# Altium integrated library NSC ADC.IntLib: 207 symbols (part 2 of 7)
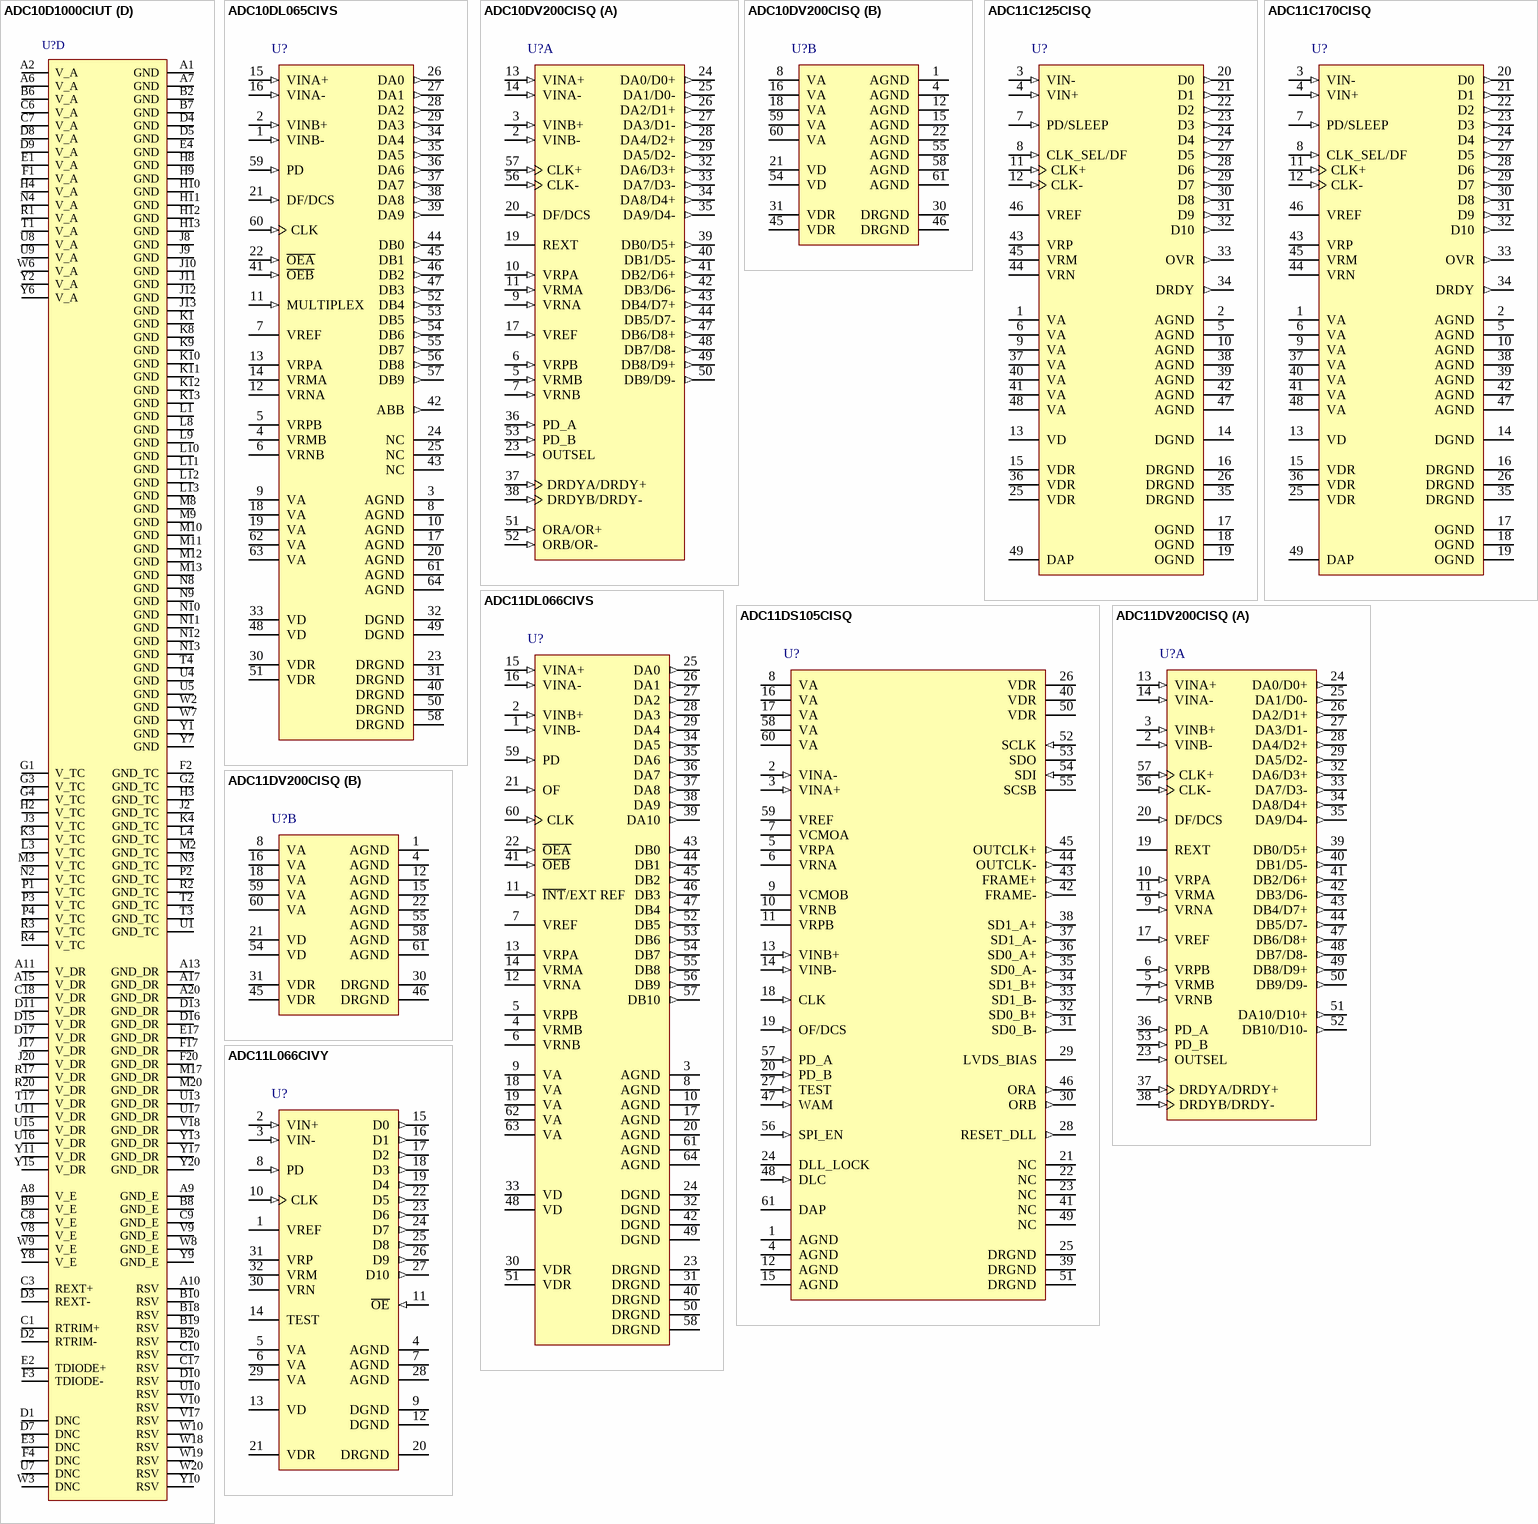
[diagram p18: symbols ADC10D1000CIUT to ADC11L066CIVY]

## ADC10D1000CIUT
designator U?
Low Power, 10-Bit, Dual 1.0 GSPS or Single 2.0 GSPS A/D Converter; PartNumber: ADC10D1000CIUT; Manufacturer: National Semiconductor; CompType: ADC IC; PackageTopMarking: NSUZXYYTTE#*ADC10D1000*CIUT; PowerWise: Y; Published: 4-Dec-2008; DatasheetVersion: Nov-2008; PackageVersion: revA, Jul-2001; PackageReference: UFH292A; Publisher: Altium Limited; PackageDescription: TE-PBGA, 27 x 27 x 2.38mm, 292 Ball, 1.27mm Pitch; RoHS: N; PinCount: 292; Code_JEDEC: MS-034-BAL-2; ComponentLink1Description: ADC10D1000 Datasheet; ComponentLink1URL: http://www.national.com/ds/AD/ADC10D1000.pdf; ComponentLink2Description: ADC10D1000 Web Page; ComponentLink2URL: http://www.national.com/pf/AD/ADC10D1000.html; ComponentLink3Description: UFH292A Package Drawing; ComponentLink3URL: http://www.national.com/packaging/folders/ufh292a.html
footprint UFH292A (BGA, 292-Leads, Body 27x27mm, Pitch 1.27mm)
part A pins: A12 DID1+ (out), A14 DID4+ (out), A16 DID7+ (out), A18 DID9+ (out), A19 DID9- (out), B11 DID0+ (out), B12 DID1- (out), B13 DID3+ (out), B14 DID4- (out), B15 DID6+ (out), B16 DID7- (out), B17 DID8+ (out), C11 DID0- (out), C12 DID2+ (out), C13 DID3- (out), C14 DID5+ (out), C15 DID6- (out), C16 DID8- (out), C19 DI0+ (out), C20 DI0- (out), D12 DID2- (out), D14 DID5- (out), D18 DI1+ (out), D19 DI2+ (out), D20 DI2- (out), E18 DI1- (out), E19 DI3+ (out), E20 DI3- (out), F18 DI4+ (out), F19 DI4- (out), G17 DI5+ (out), G18 DI5- (out), G19 DI6+ (out), G20 DI6- (out), H1 VINI+ (in), H17 DI7+ (out), H18 DI7- (out), H19 DI8+ (out), H20 DI8- (out), J1 VINI- (in), J4 VBIASI (power), J18 DI9+ (out), J19 DI9- (out), K2 VBIASI (power), K17 ORI+ (out), K18 ORI- (out), K19 DCLKI+ (out), K20 DCLKI- (out), U3 PDI (in)
part B pins: L2 VBIASQ (power), L17 ORQ+ (out), L18 ORQ- (out), L19 DCLKQ+ (out), L20 DCLKQ- (out), M1 VINQ- (in), M4 VBIASQ (power), M18 DQ9+ (out), M19 DQ9- (out), N1 VINQ+ (in), N17 DQ7+ (out), N18 DQ7- (out), N19 DQ8+ (out), N20 DQ8- (out), P17 DQ5+ (out), P18 DQ5- (out), P19 DQ6+ (out), P20 DQ6- (out), R18 DQ4+ (out), R19 DQ4- (out), T18 DQ1- (out), T19 DQ3+ (out), T20 DQ3- (out), U12 DQD2- (out), U14 DQD5- (out), U18 DQ1+ (out), U19 DQ2+ (out), U20 DQ2- (out), V3 PDQ (in), V11 DQD0- (out), V12 DQD2+ (out), V13 DQD3- (out), V14 DQD5+ (out), V15 DQD6- (out), V16 DQD8- (out), V19 DQ0+ (out), V20 DQ0- (out), W11 DQD0+ (out), W12 DQD1- (out), W13 DQD3+ (out), W14 DQD4- (out), W15 DQD6+ (out), W16 DQD7- (out), W17 DQD8+ (out), Y12 DQD1+ (out), Y14 DQD4+ (out), Y16 DQD7+ (out), Y18 DQD9+ (out), Y19 DQD9- (out)
part C pins: A3 SDO (out), A4 TPM (in), A5 NDM (in), B1 VBG (out), B3 ECEB (in), B4 SDI (in), B5 CALRUN (out), C2 VCMO (out), C4 SCSB (in), C5 SCLK (in), D6 CAL (in), U2 CLK+ (in), U6 RCOUT1- (out), V1 CLK- (in), V2 DCLK_RST+ (in), V4 CALDLY (in), V5 DES (in), V6 RCOUT2+ (out), V7 RCOUT2- (out), W1 DCLK_RST- (in), W4 DDRPH (in), W5 RCLK- (in), Y3 FSR (in), Y4 RCLK+ (in), Y5 RCOUT1+ (out)
part D pins: A1 GND (power), A2 V_A (power), A6 V_A (power), A7 GND (power), A8 V_E (power), A9 GND_E (power), A10 RSV, A11 V_DR (power), A13 GND_DR (power), A15 V_DR (power), A17 GND_DR (power), A20 GND_DR (power), B2 GND (power), B6 V_A (power), B7 GND (power), B8 GND_E (power), B9 V_E (power), B10 RSV, B18 RSV, B19 RSV, B20 RSV, C1 RTRIM+, C3 REXT+, C6 V_A (power), C7 V_A (power), C8 V_E (power), C9 GND_E (power), C10 RSV, C17 RSV, C18 V_DR (power), D1 DNC, D2 RTRIM-, D3 REXT-, D4 GND (power), D5 GND (power), D7 DNC, D8 V_A (power), D9 V_A (power), D10 RSV, D11 V_DR (power), D13 GND_DR (power), D15 V_DR (power), D16 GND_DR (power), D17 V_DR (power), E1 V_A (power), E2 TDIODE+, E3 DNC, E4 GND (power), E17 GND_DR (power), F1 V_A (power), F2 GND_TC (power), F3 TDIODE-, F4 DNC, F17 GND_DR (power), F20 GND_DR (power), G1 V_TC (power), G2 GND_TC (power), G3 V_TC (power), G4 V_TC (power), H2 V_TC (power), H3 GND_TC (power), H4 V_A (power), H8 GND (power), H9 GND (power), H10 GND (power), H11 GND (power), H12 GND (power), H13 GND (power), J2 GND_TC (power), J3 V_TC (power), J8 GND (power), J9 GND (power), J10 GND (power), J11 GND (power), J12 GND (power), J13 GND (power), J17 V_DR (power), J20 V_DR (power), K1 GND (power), K3 V_TC (power), K4 GND_TC (power), K8 GND (power), K9 GND (power), K10 GND (power), K11 GND (power), K12 GND (power), K13 GND (power), L1 GND (power), L3 V_TC (power), L4 GND_TC (power), L8 GND (power), L9 GND (power), L10 GND (power), L11 GND (power), L12 GND (power), L13 GND (power), M2 GND_TC (power), M3 V_TC (power), M8 GND (power), M9 GND (power), M10 GND (power), M11 GND (power), M12 GND (power), M13 GND (power), M17 GND_DR (power), M20 GND_DR (power), N2 V_TC (power), N3 GND_TC (power), N4 V_A (power), N8 GND (power), N9 GND (power), N10 GND (power), N11 GND (power), N12 GND (power), N13 GND (power), P1 V_TC (power), P2 GND_TC (power), P3 V_TC (power), P4 V_TC (power), R1 V_A (power), R2 GND_TC (power), R3 V_TC (power), R4 V_TC (power), R17 V_DR (power), R20 V_DR (power), T1 V_A (power), T2 GND_TC (power), T3 GND_TC (power), T4 GND (power), T17 V_DR (power), U1 GND_TC (power), U4 GND (power), U5 GND (power), U7 DNC, U8 V_A (power), U9 V_A (power), U10 RSV, U11 V_DR (power), U13 GND_DR (power), U15 V_DR (power), U16 V_DR (power), U17 GND_DR (power), V8 V_E (power), V9 GND_E (power), V10 RSV, V17 RSV, V18 GND_DR (power), W2 GND (power), W3 DNC, W6 V_A (power), W7 GND (power), W8 GND_E (power), W9 V_E (power), W10 RSV, W18 RSV, W19 RSV, W20 RSV, Y1 GND (power), Y2 V_A (power), Y6 V_A (power), Y7 GND (power), Y8 V_E (power), Y9 GND_E (power), Y10 RSV, Y11 V_DR (power), Y13 GND_DR (power), Y15 V_DR (power), Y17 GND_DR (power), Y20 GND_DR (power)

## ADC10DL065CIVS
designator U?
Dual 10-Bit, 65 MSPS, 3.3V, 370mW A/D Converter; PartNumber: ADC10DL065CIVS; Manufacturer: National Semiconductor; CompType: ADC IC; PackageTopMarking: NSUZXYYTT*ADC10DL065*CIVS; PowerWise: N; Published: 4-Dec-2008; DatasheetVersion: Jun-2006; PackageVersion: revB, Jul-2003; PackageReference: VEC64A; Publisher: Altium Limited; PackageDescription: TQFP, Jedec Metric, 10 x 10 x 1.0mm, 64 Lead, 0.5mm Pitch; RoHS: Y; PinCount: 64; DigiKeyPartNumber: ADC10DL065CIVS-ND; Code_JEDEC: MS-026-ACD; ComponentLink1Description: ADC10DL065 Datasheet; ComponentLink1URL: http://www.national.com/ds/AD/ADC10DL065.pdf; ComponentLink2Description: ADC10DL065 Web Page; ComponentLink2URL: http://www.national.com/pf/AD/ADC10DL065.html; ComponentLink3Description: VEC64A Package Page; ComponentLink3URL: http://www.national.com/packaging/folders/vec64a.html
footprint VEC64A_N (Thin QFP, 64-Leads, Body 10x10mm, Pitch 0.5mm, IPC Medium Density)
footprint VEC64A_L (Thin QFP, 64-Leads, Body 10x10mm, Pitch 0.5mm, IPC High Density)
footprint VEC64A_M (Thin QFP, 64-Leads, Body 10x10mm, Pitch 0.5mm, IPC Low Density)
pins: 1 VINB- (in), 2 VINB+ (in), 3 AGND (power), 4 VRMB, 5 VRPB, 6 VRNB, 7 VREF (power), 8 AGND (power), 9 VA (power), 10 AGND (power), 11 MULTIPLEX (in), 12 VRNA, 13 VRPA, 14 VRMA, 15 VINA+ (in), 16 VINA- (in), 17 AGND (power), 18 VA (power), 19 VA (power), 20 AGND (power), 21 DF/DCS (in), 22 ~{OEA} (in), 23 DRGND (power), 24 NC, 25 NC, 26 DA0 (out), 27 DA1 (out), 28 DA2 (out), 29 DA3 (out), 30 VDR (power), 31 DRGND (power), 32 DGND (power), 33 VD (power), 34 DA4 (out), 35 DA5 (out), 36 DA6 (out), 37 DA7 (out), 38 DA8 (out), 39 DA9 (out), 40 DRGND (power), 41 ~{OEB} (in), 42 ABB (out), 43 NC, 44 DB0 (out), 45 DB1 (out), 46 DB2 (out), 47 DB3 (out), 48 VD (power), 49 DGND (power), 50 DRGND (power), 51 VDR (power), 52 DB4 (out), 53 DB5 (out), 54 DB6 (out), 55 DB7 (out), 56 DB8 (out), 57 DB9 (out), 58 DRGND (power), 59 PD (in), 60 CLK (in), 61 AGND (power), 62 VA (power), 63 VA (power), 64 AGND (power)

## ADC10DV200CISQ
designator U?
Dual 10-bit, 200 MSPS Low-Power A/D Converter with Parallel LVDS/CMOS Outputs; PartNumber: ADC10DV200CISQ; Manufacturer: National Semiconductor; CompType: ADC IC; PackageTopMarking: NS*UZXYTT*10DV200*CISQ; PowerWise: Y; Published: 29-May-2009; DatasheetVersion: Feb-2009; PackageVersion: revA, Jun-2005; PackageReference: SQA60A; Publisher: Altium Limited; PackageDescription: LLP, Quad, 9 x 9 x 0.8mm, 60 Lead, 0.5mm Pitch, No Pullback; RoHS: Y; PinCount: 60; DigiKeyPartNumber: ADC10DV200CISQ-ND; ComponentLink1Description: ADC10DV200 Datasheet; ComponentLink1URL: http://www.national.com/ds/AD/ADC10DV200.pdf; ComponentLink2Description: ADC10DV200 Web Page; ComponentLink2URL: http://www.national.com/pf/AD/ADC10DV200.html; ComponentLink3Description: SQA60A Package Page; ComponentLink3URL: http://www.national.com/packaging/folders/sqa60a.html
footprint SQA60A (QFN, 60-Leads, Body 9x9mm, Pitch 0.5mm, NSC Recommended)
part A pins: 2 VINB- (in), 3 VINB+ (in), 5 VRMB (in), 6 VRPB (in), 7 VRNB (in), 9 VRNA (in), 10 VRPA (in), 11 VRMA (in), 13 VINA+ (in), 14 VINA- (in), 17 VREF (in), 19 REXT, 20 DF/DCS (in), 23 OUTSEL (in), 24 DA0/D0+ (out), 25 DA1/D0- (out), 26 DA2/D1+ (out), 27 DA3/D1- (out), 28 DA4/D2+ (out), 29 DA5/D2- (out), 32 DA6/D3+ (out), 33 DA7/D3- (out), 34 DA8/D4+ (out), 35 DA9/D4- (out), 36 PD_A (in), 37 DRDYA/DRDY+ (in), 38 DRDYB/DRDY- (in), 39 DB0/D5+ (out), 40 DB1/D5- (out), 41 DB2/D6+ (out), 42 DB3/D6- (out), 43 DB4/D7+ (out), 44 DB5/D7- (out), 47 DB6/D8+ (out), 48 DB7/D8- (out), 49 DB8/D9+ (out), 50 DB9/D9- (out), 51 ORA/OR+ (in), 52 ORB/OR- (in), 53 PD_B (in), 56 CLK- (in), 57 CLK+ (in)
part B pins: 1 AGND (power), 4 AGND (power), 8 VA (power), 12 AGND (power), 15 AGND (power), 16 VA (power), 18 VA (power), 21 VD (power), 22 AGND (power), 30 DRGND (power), 31 VDR (power), 45 VDR (power), 46 DRGND (power), 54 VD (power), 55 AGND (power), 58 AGND (power), 59 VA (power), 60 VA (power), 61 AGND (power)

## ADC11C125CISQ
designator U?
11-Bit, 125 MSPS, 1.1 GHz Bandwidth A/D Converter with CMOS outputs; PartNumber: ADC11C125CISQ; Manufacturer: National Semiconductor; CompType: ADC IC; PackageTopMarking: NS*UZXYTT*ADC11C125; PowerWise: N; Published: 4-Dec-2008; DatasheetVersion: May-2007; PackageVersion: revA, May-2003; PackageReference: SQA48A; Publisher: Altium Limited; PackageDescription: LLP, Plastic, Quad, 7 x 7 x 0.8mm Body, 48 Lead, 0.5mm Pitch, No Pullback; RoHS: Y; PinCount: 48; Code_JEDEC: MO-220-WKKD-2; ComponentLink1Description: ADC11C125 Datasheet; ComponentLink1URL: http://www.national.com/ds/AD/ADC11C125.pdf; ComponentLink2Description: ADC11C125 Web Page; ComponentLink2URL: http://www.national.com/pf/AD/ADC11C125.html; ComponentLink3Description: SQA48A Package Page; ComponentLink3URL: http://www.national.com/packaging/folders/sqa48a.html
footprint SQA48A (QFN, 48-Leads, Body 7x7mm, Pitch 0.5mm, NSC Recommended)
pins: 1 VA (power), 2 AGND (power), 3 VIN- (in), 4 VIN+ (in), 5 AGND (power), 6 VA (power), 7 PD/SLEEP (in), 8 CLK_SEL/DF (in), 9 VA (power), 10 AGND (power), 11 CLK+ (in), 12 CLK- (in), 13 VD (power), 14 DGND (power), 15 VDR (power), 16 DRGND (power), 17 OGND (power), 18 OGND (power), 19 OGND (power), 20 D0 (out), 21 D1 (out), 22 D2 (out), 23 D3 (out), 24 D4 (out), 25 VDR (power), 26 DRGND (power), 27 D5 (out), 28 D6 (out), 29 D7 (out), 30 D8 (out), 31 D9 (out), 32 D10 (out), 33 OVR (out), 34 DRDY (out), 35 DRGND (power), 36 VDR (power), 37 VA (power), 38 AGND (power), 39 AGND (power), 40 VA (power), 41 VA (power), 42 AGND (power), 43 VRP, 44 VRN, 45 VRM, 46 VREF (power), 47 AGND (power), 48 VA (power), 49 DAP (power)

## ADC11C170CISQ
designator U?
11-Bit, 170 MSPS, 1.1 GHz Bandwidth A/D Converter with CMOS outputs; PartNumber: ADC11C170CISQ; Manufacturer: National Semiconductor; CompType: ADC IC; PackageTopMarking: NS*UZXYTT*ADC11C170; PowerWise: N; Published: 4-Dec-2008; DatasheetVersion: Jun-2007; PackageVersion: revA, May-2003; PackageReference: SQA48A; Publisher: Altium Limited; PackageDescription: LLP, Plastic, Quad, 7 x 7 x 0.8mm Body, 48 Lead, 0.5mm Pitch, No Pullback; RoHS: O; PinCount: 48; Code_JEDEC: MO-220-WKKD-2; ComponentLink1Description: ADC11C170 Datasheet; ComponentLink1URL: http://www.national.com/ds/AD/ADC11C170.pdf; ComponentLink2Description: ADC11C170 Web Page; ComponentLink2URL: http://www.national.com/pf/AD/ADC11C170.html; ComponentLink3Description: SQA48A Package Page; ComponentLink3URL: http://www.national.com/packaging/folders/sqa48a.html
footprint SQA48A (QFN, 48-Leads, Body 7x7mm, Pitch 0.5mm, NSC Recommended)
pins: 1 VA (power), 2 AGND (power), 3 VIN- (in), 4 VIN+ (in), 5 AGND (power), 6 VA (power), 7 PD/SLEEP (in), 8 CLK_SEL/DF (in), 9 VA (power), 10 AGND (power), 11 CLK+ (in), 12 CLK- (in), 13 VD (power), 14 DGND (power), 15 VDR (power), 16 DRGND (power), 17 OGND (power), 18 OGND (power), 19 OGND (power), 20 D0 (out), 21 D1 (out), 22 D2 (out), 23 D3 (out), 24 D4 (out), 25 VDR (power), 26 DRGND (power), 27 D5 (out), 28 D6 (out), 29 D7 (out), 30 D8 (out), 31 D9 (out), 32 D10 (out), 33 OVR (out), 34 DRDY (out), 35 DRGND (power), 36 VDR (power), 37 VA (power), 38 AGND (power), 39 AGND (power), 40 VA (power), 41 VA (power), 42 AGND (power), 43 VRP, 44 VRN, 45 VRM, 46 VREF (power), 47 AGND (power), 48 VA (power), 49 DAP (power)

## ADC11DL066CIVS
designator U?
Dual 11-Bit, 66 MSPS, 450 MHz Input Bandwidth A/D Converter w/Internal Reference; PartNumber: ADC11DL066CIVS; Manufacturer: National Semiconductor; CompType: ADC IC; PackageTopMarking: NSUZXYYTT*ADC11DL066*CIVS; PowerWise: N; Published: 4-Dec-2008; DatasheetVersion: Mar-2004; PackageVersion: revB, Jul-2003; PackageReference: VEC64A; Publisher: Altium Limited; PackageDescription: TQFP, Jedec Metric, 10 x 10 x 1.0mm, 64 Lead, 0.5mm Pitch; RoHS: O; PinCount: 64; DigiKeyPartNumber: ADC11DL066CIVS-ND; Code_JEDEC: MS-026-ACD; ComponentLink1Description: ADC11DL066 Datasheet; ComponentLink1URL: http://www.national.com/ds/AD/ADC11DL066.pdf; ComponentLink2Description: ADC11DL066 Web Page; ComponentLink2URL: http://www.national.com/pf/AD/ADC11DL066.html; ComponentLink3Description: VEC64A Package Page; ComponentLink3URL: http://www.national.com/packaging/folders/vec64a.html
footprint VEC64A_N (Thin QFP, 64-Leads, Body 10x10mm, Pitch 0.5mm, IPC Medium Density)
footprint VEC64A_L (Thin QFP, 64-Leads, Body 10x10mm, Pitch 0.5mm, IPC High Density)
footprint VEC64A_M (Thin QFP, 64-Leads, Body 10x10mm, Pitch 0.5mm, IPC Low Density)
pins: 1 VINB- (in), 2 VINB+ (in), 3 AGND (power), 4 VRMB, 5 VRPB, 6 VRNB, 7 VREF (power), 8 AGND (power), 9 VA (power), 10 AGND (power), 11 ~{INT}/EXT REF (in), 12 VRNA, 13 VRPA, 14 VRMA, 15 VINA+ (in), 16 VINA- (in), 17 AGND (power), 18 VA (power), 19 VA (power), 20 AGND (power), 21 OF (in), 22 ~{OEA} (in), 23 DRGND (power), 24 DGND (power), 25 DA0 (out), 26 DA1 (out), 27 DA2 (out), 28 DA3 (out), 29 DA4 (out), 30 VDR (power), 31 DRGND (power), 32 DGND (power), 33 VD (power), 34 DA5 (out), 35 DA6 (out), 36 DA7 (out), 37 DA8 (out), 38 DA9 (out), 39 DA10 (out), 40 DRGND (power), 41 ~{OEB} (in), 42 DGND (power), 43 DB0 (out), 44 DB1 (out), 45 DB2 (out), 46 DB3 (out), 47 DB4 (out), 48 VD (power), 49 DGND (power), 50 DRGND (power), 51 VDR (power), 52 DB5 (out), 53 DB6 (out), 54 DB7 (out), 55 DB8 (out), 56 DB9 (out), 57 DB10 (out), 58 DRGND (power), 59 PD (in), 60 CLK (in), 61 AGND (power), 62 VA (power), 63 VA (power), 64 AGND (power)

## ADC11DS105CISQ
designator U?
Dual 11-Bit, 105 MSPS A/D Converter with Serial LVDS Outputs; PartNumber: ADC11DS105CISQ; Manufacturer: National Semiconductor; CompType: ADC IC; PackageTopMarking: NS*UZXYTT*11DS105; PowerWise: N; Published: 4-Dec-2008; DatasheetVersion: Mar-2008; PackageVersion: revA, Jun-2005; PackageReference: SQA60A; Publisher: Altium Limited; PackageDescription: LLP, Quad, 9 x 9 x 0.8mm, 60 Lead, 0.5mm Pitch, No Pullback; RoHS: O; PinCount: 60; DigiKeyPartNumber: ADC11DS105CISQ-ND; ComponentLink1Description: ADC11DS105 Datasheet; ComponentLink1URL: http://www.national.com/ds/AD/ADC11DS105.pdf; ComponentLink2Description: ADC11DS105 Web Page; ComponentLink2URL: http://www.national.com/pf/AD/ADC11DS105.html; ComponentLink3Description: SQA60A Package Drawing; ComponentLink3URL: http://www.national.com/packaging/folders/sqa60a.html
footprint SQA60A (QFN, 60-Leads, Body 9x9mm, Pitch 0.5mm, NSC Recommended)
pins: 1 AGND (power), 2 VINA- (in), 3 VINA+ (in), 4 AGND (power), 5 VRPA, 6 VRNA, 7 VCMOA, 8 VA (power), 9 VCMOB, 10 VRNB, 11 VRPB, 12 AGND (power), 13 VINB+ (in), 14 VINB- (in), 15 AGND (power), 16 VA (power), 17 VA (power), 18 CLK (in), 19 OF/DCS (in), 20 PD_B (in), 21 NC, 22 NC, 23 NC, 24 DLL_LOCK, 25 DRGND (power), 26 VDR, 27 TEST (in), 28 RESET_DLL (out), 29 LVDS_BIAS, 30 ORB (out), 31 SD0_B- (out), 32 SD0_B+ (out), 33 SD1_B- (out), 34 SD1_B+ (out), 35 SD0_A- (out), 36 SD0_A+ (out), 37 SD1_A- (out), 38 SD1_A+ (out), 39 DRGND (power), 40 VDR, 41 NC, 42 FRAME- (out), 43 FRAME+ (out), 44 OUTCLK- (out), 45 OUTCLK+ (out), 46 ORA (out), 47 WAM (in), 48 DLC (in), 49 NC, 50 VDR, 51 DRGND (power), 52 SCLK (in), 53 SDO (hiz), 54 SDI (in), 55 SCSB, 56 SPI_EN (in), 57 PD_A (in), 58 VA (power), 59 VREF, 60 VA (power), 61 DAP

## ADC11DV200CISQ
designator U?
Dual 11-bit, 200 MSPS Low-Power A/D Converter with Parallel LVDS/CMOS Outputs; PartNumber: ADC11DV200CISQ; Manufacturer: National Semiconductor; CompType: ADC IC; PackageTopMarking: NS*UZXYTT*11DV200*CISQ; PowerWise: N; Published: 29-May-2009; DatasheetVersion: Apr-2009; PackageVersion: revA, Jun-2005; PackageReference: SQA60A; Publisher: Altium Limited; PackageDescription: LLP, Quad, 9 x 9 x 0.8mm, 60 Lead, 0.5mm Pitch, No Pullback; RoHS: Y; PinCount: 60; ComponentLink1Description: ADC11DV200 Datasheet; ComponentLink1URL: http://www.national.com/ds/AD/ADC11DV200.pdf; ComponentLink2Description: ADC11DV200 Web Page; ComponentLink2URL: http://www.national.com/pf/AD/ADC11DV200.html; ComponentLink3Description: SQA60A Package Page; ComponentLink3URL: http://www.national.com/packaging/folders/sqa60a.html
footprint SQA60A (QFN, 60-Leads, Body 9x9mm, Pitch 0.5mm, NSC Recommended)
part A pins: 2 VINB- (in), 3 VINB+ (in), 5 VRMB (in), 6 VRPB (in), 7 VRNB (in), 9 VRNA (in), 10 VRPA (in), 11 VRMA (in), 13 VINA+ (in), 14 VINA- (in), 17 VREF (in), 19 REXT, 20 DF/DCS (in), 23 OUTSEL (in), 24 DA0/D0+ (out), 25 DA1/D0- (out), 26 DA2/D1+ (out), 27 DA3/D1- (out), 28 DA4/D2+ (out), 29 DA5/D2- (out), 32 DA6/D3+ (out), 33 DA7/D3- (out), 34 DA8/D4+ (out), 35 DA9/D4- (out), 36 PD_A (in), 37 DRDYA/DRDY+ (in), 38 DRDYB/DRDY- (in), 39 DB0/D5+ (out), 40 DB1/D5- (out), 41 DB2/D6+ (out), 42 DB3/D6- (out), 43 DB4/D7+ (out), 44 DB5/D7- (out), 47 DB6/D8+ (out), 48 DB7/D8- (out), 49 DB8/D9+ (out), 50 DB9/D9- (out), 51 DA10/D10+ (out), 52 DB10/D10- (out), 53 PD_B (in), 56 CLK- (in), 57 CLK+ (in)
part B pins: 1 AGND (power), 4 AGND (power), 8 VA (power), 12 AGND (power), 15 AGND (power), 16 VA (power), 18 VA (power), 21 VD (power), 22 AGND (power), 30 DRGND (power), 31 VDR (power), 45 VDR (power), 46 DRGND (power), 54 VD (power), 55 AGND (power), 58 AGND (power), 59 VA (power), 60 VA (power), 61 AGND (power)

## ADC11L066CIVY
designator U?
11-Bit, 66 MSPS, 450 MHz Bandwidth A/D Converter with Internal Sample-and-Hold; PartNumber: ADC11L066CIVY; Manufacturer: National Semiconductor; CompType: ADC IC; PackageTopMarking: NSUZXYTT*ADC11L0*66CIVY; PowerWise: N; Published: 4-Dec-2008; DatasheetVersion: Aug-2002; PackageVersion: revE, Dec-1999; PackageReference: VBE32A; Publisher: Altium Limited; PackageDescription: LQFP, JEDEC, Metric, 7 x 7 x 1.4mm, 32 Lead; RoHS: Y; PinCount: 32; DigiKeyPartNumber: ADC11L066CIVY-ND; ComponentLink1Description: ADC11L066 Datasheet; ComponentLink1URL: http://www.national.com/ds/AD/ADC11L066.pdf; ComponentLink2Description: ADC11L066 Web Page; ComponentLink2URL: http://www.national.com/pf/AD/ADC11L066.html; ComponentLink3Description: VBE32A Package Page; ComponentLink3URL: http://www.national.com/packaging/folders/vbe32a.html
footprint VBE32A_N (Thin QFP, 32-Leads, Body 7x7mm, Pitch 0.8mm, IPC Medium Density)
footprint VBE32A_L (Thin QFP, 32-Leads, Body 7x7mm, Pitch 0.8mm, IPC High Density)
footprint VBE32A_M (Thin QFP, 32-Leads, Body 7x7mm, Pitch 0.8mm, IPC Low Density)
pins: 1 VREF (power), 2 VIN+ (in), 3 VIN- (in), 4 AGND (power), 5 VA (power), 6 VA (power), 7 AGND (power), 8 PD (in), 9 DGND (power), 10 CLK (in), 11 ~{OE} (in), 12 DGND (power), 13 VD (power), 14 TEST, 15 D0 (out), 16 D1 (out), 17 D2 (out), 18 D3 (out), 19 D4 (out), 20 DRGND (power), 21 VDR (power), 22 D5 (out), 23 D6 (out), 24 D7 (out), 25 D8 (out), 26 D9 (out), 27 D10 (out), 28 AGND (power), 29 VA (power), 30 VRN, 31 VRP, 32 VRM

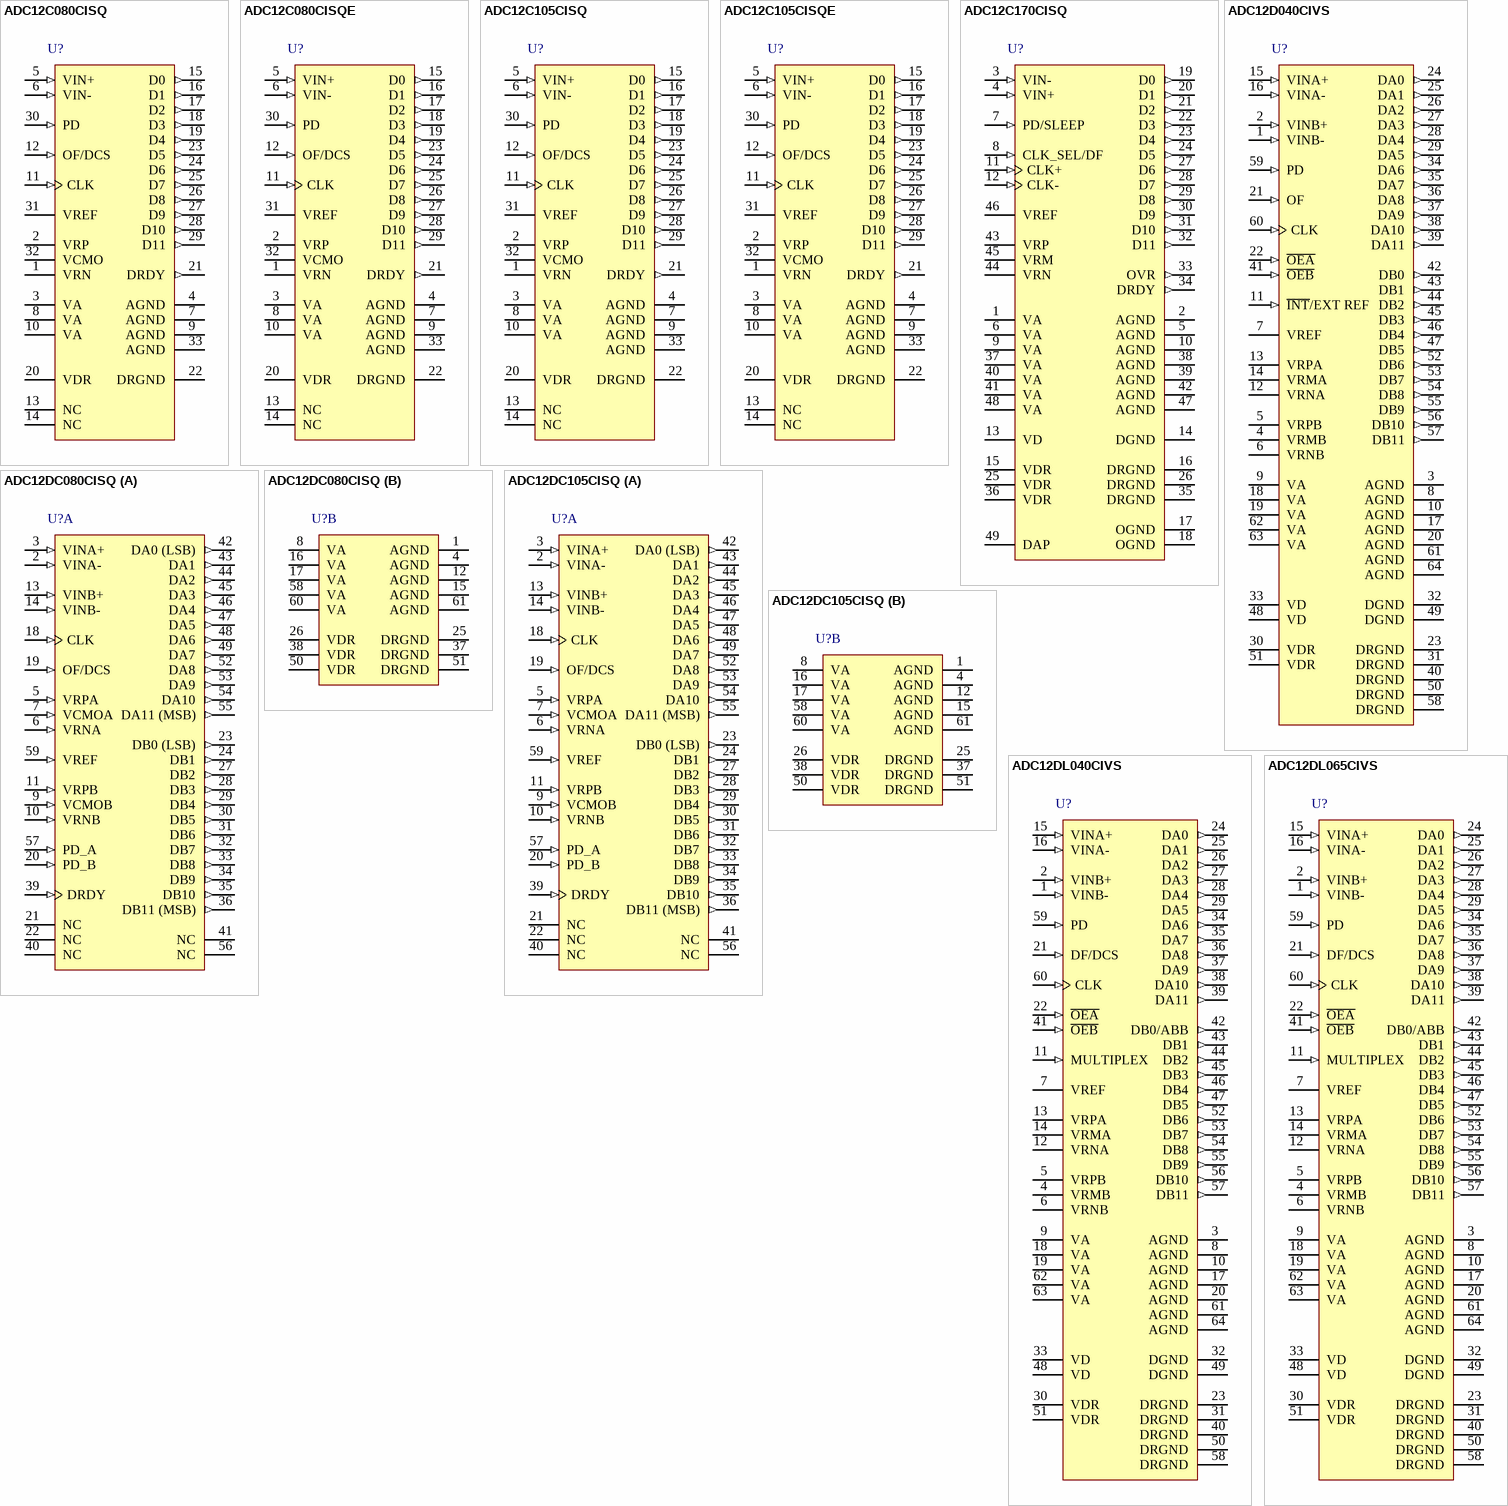
[diagram p6: symbols ADC12C080CISQ to ADC12DL065CIVS]

## ADC12C080CISQ
designator U?
12-Bit, 65/80 MSPS A/D Converter; PartNumber: ADC12C080CISQ; Manufacturer: National Semiconductor; CompType: ADC IC; PackageTopMarking: NS*UZXYTT*12C080; PowerWise: Y; Published: 4-Dec-2008; DatasheetVersion: Aug-2007; PackageVersion: revA, Jul-2004; PackageReference: SQA32A; Publisher: Altium Limited; PackageDescription: LLP, Quad, 5 x 5 x 0.8mm, 32 Lead, 0.5mm Pitch, No Pullback 3.1 x 3.1 Exposed Pad; RoHS: Y; PinCount: 32; DigiKeyPartNumber: ADC12C080CISQ-ND; ComponentLink1Description: ADC12C080 Datasheet; ComponentLink1URL: http://www.national.com/ds/AD/ADC12C080.pdf; ComponentLink2Description: ADC12C080 Web Page; ComponentLink2URL: http://www.national.com/pf/AD/ADC12C080.html; ComponentLink3Description: SQA32A Package Page; ComponentLink3URL: http://www.national.com/packaging/folders/sqa32a.html
footprint SQA32A (QFN, 32-Leads, Body 5x5mm, Pitch 0.5mm, NSC Recommended)
pins: 1 VRN, 2 VRP, 3 VA (power), 4 AGND (power), 5 VIN+ (in), 6 VIN- (in), 7 AGND (power), 8 VA (power), 9 AGND (power), 10 VA (power), 11 CLK (in), 12 OF/DCS (in), 13 NC, 14 NC, 15 D0 (out), 16 D1 (out), 17 D2 (out), 18 D3 (out), 19 D4 (out), 20 VDR (power), 21 DRDY (out), 22 DRGND (power), 23 D5 (out), 24 D6 (out), 25 D7 (out), 26 D8 (out), 27 D9 (out), 28 D10 (out), 29 D11 (out), 30 PD (in), 31 VREF (power), 32 VCMO, 33 AGND (power)

## ADC12C080CISQE
designator U?
12-Bit, 65/80 MSPS A/D Converter; PartNumber: ADC12C080CISQE; Manufacturer: National Semiconductor; CompType: ADC IC; PackageTopMarking: NS*UZXYTT*12C080E; Published: 4-Dec-2008; DatasheetVersion: Aug-2007; PackageVersion: revA, Jul-2004; PackageReference: SQA32A; Publisher: Altium Limited; PackageDescription: LLP, Quad, 5 x 5 x 0.8mm, 32 Lead, 0.5mm Pitch, No Pullback 3.1 x 3.1 Exposed Pad; RoHS: Y; PinCount: 32; DigiKeyPartNumber: ADC12C080CISQECT-ND; ComponentLink1Description: ADC12C080 Datasheet; ComponentLink1URL: http://www.national.com/ds/AD/ADC12C080.pdf; ComponentLink2Description: ADC12C080 Web Page; ComponentLink2URL: http://www.national.com/pf/AD/ADC12C080.html; ComponentLink3Description: SQA32A Package Page; ComponentLink3URL: http://www.national.com/packaging/folders/sqa32a.html
footprint SQA32A (QFN, 32-Leads, Body 5x5mm, Pitch 0.5mm, NSC Recommended)
pins: 1 VRN, 2 VRP, 3 VA (power), 4 AGND (power), 5 VIN+ (in), 6 VIN- (in), 7 AGND (power), 8 VA (power), 9 AGND (power), 10 VA (power), 11 CLK (in), 12 OF/DCS (in), 13 NC, 14 NC, 15 D0 (out), 16 D1 (out), 17 D2 (out), 18 D3 (out), 19 D4 (out), 20 VDR (power), 21 DRDY (out), 22 DRGND (power), 23 D5 (out), 24 D6 (out), 25 D7 (out), 26 D8 (out), 27 D9 (out), 28 D10 (out), 29 D11 (out), 30 PD (in), 31 VREF (power), 32 VCMO, 33 AGND (power)

## ADC12C105CISQ
designator U?
12-Bit, 105 MSPS A/D Converter; PartNumber: ADC12C105CISQ; Manufacturer: National Semiconductor; CompType: ADC IC; PackageTopMarking: NS*UZXYTT*12C105; PowerWise: Y; Published: 4-Dec-2008; DatasheetVersion: Jul-2007; PackageVersion: revA, Jul-2004; PackageReference: SQA32A; Publisher: Altium Limited; PackageDescription: LLP, Quad, 5 x 5 x 0.8mm, 32 Lead, 0.5mm Pitch, No Pullback 3.1 x 3.1 Exposed Pad; RoHS: Y; PinCount: 32; DigiKeyPartNumber: ADC12C105CISQ-ND; ComponentLink1Description: ADC12C105 Datasheet; ComponentLink1URL: http://www.national.com/ds/AD/ADC12C105.pdf; ComponentLink2Description: ADC12C105 Web Page; ComponentLink2URL: http://www.national.com/pf/AD/ADC12C105.html; ComponentLink3Description: SQA32A Package Page; ComponentLink3URL: http://www.national.com/packaging/folders/sqa32a.html
footprint SQA32A (QFN, 32-Leads, Body 5x5mm, Pitch 0.5mm, NSC Recommended)
pins: 1 VRN, 2 VRP, 3 VA (power), 4 AGND (power), 5 VIN+ (in), 6 VIN- (in), 7 AGND (power), 8 VA (power), 9 AGND (power), 10 VA (power), 11 CLK (in), 12 OF/DCS (in), 13 NC, 14 NC, 15 D0 (out), 16 D1 (out), 17 D2 (out), 18 D3 (out), 19 D4 (out), 20 VDR (power), 21 DRDY (out), 22 DRGND (power), 23 D5 (out), 24 D6 (out), 25 D7 (out), 26 D8 (out), 27 D9 (out), 28 D10 (out), 29 D11 (out), 30 PD (in), 31 VREF (power), 32 VCMO, 33 AGND (power)

## ADC12C105CISQE
designator U?
12-Bit, 105 MSPS A/D Converter; PartNumber: ADC12C105CISQE; Manufacturer: National Semiconductor; CompType: ADC IC; PackageTopMarking: NS*UZXYTT*12C105E; Published: 4-Dec-2008; DatasheetVersion: Aug-2007; PackageVersion: revA, Jul-2004; PackageReference: SQA32A; Publisher: Altium Limited; PackageDescription: LLP, Quad, 5 x 5 x 0.8mm, 32 Lead, 0.5mm Pitch, No Pullback 3.1 x 3.1 Exposed Pad; RoHS: Y; PinCount: 32; DigiKeyPartNumber: ADC12C105CISQECT-ND; ComponentLink1Description: ADC12C105 Datasheet; ComponentLink1URL: http://www.national.com/ds/AD/ADC12C105.pdf; ComponentLink2Description: ADC12C105 Web Page; ComponentLink2URL: http://www.national.com/pf/AD/ADC12C105.html; ComponentLink3Description: SQA32A Package Page; ComponentLink3URL: http://www.national.com/packaging/folders/sqa32a.html
footprint SQA32A (QFN, 32-Leads, Body 5x5mm, Pitch 0.5mm, NSC Recommended)
pins: 1 VRN, 2 VRP, 3 VA (power), 4 AGND (power), 5 VIN+ (in), 6 VIN- (in), 7 AGND (power), 8 VA (power), 9 AGND (power), 10 VA (power), 11 CLK (in), 12 OF/DCS (in), 13 NC, 14 NC, 15 D0 (out), 16 D1 (out), 17 D2 (out), 18 D3 (out), 19 D4 (out), 20 VDR (power), 21 DRDY (out), 22 DRGND (power), 23 D5 (out), 24 D6 (out), 25 D7 (out), 26 D8 (out), 27 D9 (out), 28 D10 (out), 29 D11 (out), 30 PD (in), 31 VREF (power), 32 VCMO, 33 AGND (power)

## ADC12C170CISQ
designator U?
12-Bit, 170 MSPS, 1.1 GHz Bandwidth A/D Converter with CMOS Outputs; PartNumber: ADC12C170CISQ; Manufacturer: National Semiconductor; CompType: ADC IC; PackageTopMarking: NS*UZXYTT*ADC12C170; PowerWise: Y; Published: 4-Dec-2008; DatasheetVersion: Dec-2006; PackageVersion: revA, May-2003; PackageReference: SQA48A; Publisher: Altium Limited; PackageDescription: LLP, Plastic, Quad, 7 x 7 x 0.8mm Body, 48 Lead, 0.5mm Pitch, No Pullback; RoHS: Y; PinCount: 48; DigiKeyPartNumber: ADC12C170CISQCT-ND; Code_JEDEC: MO-220-WKKD-2; ComponentLink1Description: ADC12C170 Datasheet; ComponentLink1URL: http://www.national.com/ds/AD/ADC12C170.pdf; ComponentLink2Description: ADC12C170 Web Page; ComponentLink2URL: http://www.national.com/pf/AD/ADC12C170.html; ComponentLink3Description: SQA48A Package Page; ComponentLink3URL: http://www.national.com/packaging/folders/sqa48a.html
footprint SQA48A (QFN, 48-Leads, Body 7x7mm, Pitch 0.5mm, NSC Recommended)
pins: 1 VA (power), 2 AGND (power), 3 VIN- (in), 4 VIN+ (in), 5 AGND (power), 6 VA (power), 7 PD/SLEEP (in), 8 CLK_SEL/DF (in), 9 VA (power), 10 AGND (power), 11 CLK+ (in), 12 CLK- (in), 13 VD (power), 14 DGND (power), 15 VDR (power), 16 DRGND (power), 17 OGND (power), 18 OGND (power), 19 D0 (out), 20 D1 (out), 21 D2 (out), 22 D3 (out), 23 D4 (out), 24 D5 (out), 25 VDR (power), 26 DRGND (power), 27 D6 (out), 28 D7 (out), 29 D8 (out), 30 D9 (out), 31 D10 (out), 32 D11 (out), 33 OVR (out), 34 DRDY (out), 35 DRGND (power), 36 VDR (power), 37 VA (power), 38 AGND (power), 39 AGND (power), 40 VA (power), 41 VA (power), 42 AGND (power), 43 VRP, 44 VRN, 45 VRM, 46 VREF (power), 47 AGND (power), 48 VA (power), 49 DAP (power)

## ADC12D040CIVS
designator U?
Dual 12-Bit, 40 MSPS, 600 mW A/D Converter with Internal/External Reference; PartNumber: ADC12D040CIVS; Manufacturer: National Semiconductor; CompType: ADC IC; PackageTopMarking: NSUZXYYTT*ADC12D040*CIVS; PowerWise: N; Published: 4-Dec-2008; DatasheetVersion: Oct-2002; PackageVersion: revB, Jul-2003; PackageReference: VEC64A; Publisher: Altium Limited; PackageDescription: TQFP, Jedec Metric, 10 x 10 x 1.0mm, 64 Lead, 0.5mm Pitch; RoHS: O; PinCount: 64; DigiKeyPartNumber: ADC12D040CIVS-ND; Code_JEDEC: MS-026-ACD; ComponentLink1Description: ADC12D040 Datasheet; ComponentLink1URL: http://www.national.com/ds/AD/ADC12D040.pdf; ComponentLink2Description: ADC12D040 Web Page; ComponentLink2URL: http://www.national.com/pf/AD/ADC12D040.html; ComponentLink3Description: VEC64A Package Page; ComponentLink3URL: http://www.national.com/packaging/folders/vec64a.html
footprint VEC64A_N (Thin QFP, 64-Leads, Body 10x10mm, Pitch 0.5mm, IPC Medium Density)
footprint VEC64A_L (Thin QFP, 64-Leads, Body 10x10mm, Pitch 0.5mm, IPC High Density)
footprint VEC64A_M (Thin QFP, 64-Leads, Body 10x10mm, Pitch 0.5mm, IPC Low Density)
pins: 1 VINB- (in), 2 VINB+ (in), 3 AGND (power), 4 VRMB, 5 VRPB, 6 VRNB, 7 VREF (power), 8 AGND (power), 9 VA (power), 10 AGND (power), 11 ~{INT}/EXT REF (in), 12 VRNA, 13 VRPA, 14 VRMA, 15 VINA+ (in), 16 VINA- (in), 17 AGND (power), 18 VA (power), 19 VA (power), 20 AGND (power), 21 OF (in), 22 ~{OEA} (in), 23 DRGND (power), 24 DA0 (out), 25 DA1 (out), 26 DA2 (out), 27 DA3 (out), 28 DA4 (out), 29 DA5 (out), 30 VDR (power), 31 DRGND (power), 32 DGND (power), 33 VD (power), 34 DA6 (out), 35 DA7 (out), 36 DA8 (out), 37 DA9 (out), 38 DA10 (out), 39 DA11 (out), 40 DRGND (power), 41 ~{OEB} (in), 42 DB0 (out), 43 DB1 (out), 44 DB2 (out), 45 DB3 (out), 46 DB4 (out), 47 DB5 (out), 48 VD (power), 49 DGND (power), 50 DRGND (power), 51 VDR (power), 52 DB6 (out), 53 DB7 (out), 54 DB8 (out), 55 DB9 (out), 56 DB10 (out), 57 DB11 (out), 58 DRGND (power), 59 PD (in), 60 CLK (in), 61 AGND (power), 62 VA (power), 63 VA (power), 64 AGND (power)

## ADC12DC080CISQ
designator U?
Dual 12-Bit, 80 MSPS A/D Converter with CMOS Outputs; PartNumber: ADC12DC080CISQ; Manufacturer: National Semiconductor; CompType: ADC IC; PackageTopMarking: NS*UZXYTT*12DC080*CISQ; PowerWise: Y; Published: 29-May-2009; DatasheetVersion: Nov-2008; PackageVersion: revA, Jun-2005; PackageReference: SQA60A; Publisher: Altium Limited; PackageDescription: LLP, Quad, 9 x 9 x 0.8mm, 60 Lead, 0.5mm Pitch, No Pullback; RoHS: O; PinCount: 60; DigiKeyPartNumber: ADC12DC080CISQECT-ND; ComponentLink1Description: ADC12DC080 Datasheet; ComponentLink1URL: http://www.national.com/ds/AD/ADC12DC080.pdf; ComponentLink2Description: ADC12DC080 Web Page; ComponentLink2URL: http://www.national.com/pf/AD/ADC12DC080.html; ComponentLink3Description: SQA60A Package Page; ComponentLink3URL: http://www.national.com/packaging/folders/sqa60a.html
footprint SQA60A (QFN, 60-Leads, Body 9x9mm, Pitch 0.5mm, NSC Recommended)
part A pins: 2 VINA- (in), 3 VINA+ (in), 5 VRPA (in), 6 VRNA (in), 7 VCMOA (in), 9 VCMOB (in), 10 VRNB (in), 11 VRPB (in), 13 VINB+ (in), 14 VINB- (in), 18 CLK (in), 19 OF/DCS (in), 20 PD_B (in), 21 NC, 22 NC, 23 DB0 (LSB) (out), 24 DB1 (out), 27 DB2 (out), 28 DB3 (out), 29 DB4 (out), 30 DB5 (out), 31 DB6 (out), 32 DB7 (out), 33 DB8 (out), 34 DB9 (out), 35 DB10 (out), 36 DB11 (MSB) (out), 39 DRDY (in), 40 NC, 41 NC, 42 DA0 (LSB) (out), 43 DA1 (out), 44 DA2 (out), 45 DA3 (out), 46 DA4 (out), 47 DA5 (out), 48 DA6 (out), 49 DA7 (out), 52 DA8 (out), 53 DA9 (out), 54 DA10 (out), 55 DA11 (MSB) (out), 56 NC, 57 PD_A (in), 59 VREF (in)
part B pins: 1 AGND (power), 4 AGND (power), 8 VA (power), 12 AGND (power), 15 AGND (power), 16 VA (power), 17 VA (power), 25 DRGND (power), 26 VDR (power), 37 DRGND (power), 38 VDR (power), 50 VDR (power), 51 DRGND (power), 58 VA (power), 60 VA (power), 61 AGND (power)

## ADC12DC105CISQ
designator U?
Dual 12-Bit, 105 MSPS A/D Converter with CMOS Outputs; PartNumber: ADC12DC105CISQ; Manufacturer: National Semiconductor; CompType: ADC IC; PackageTopMarking: NS*UZXYTT*12DC105*CISQ; PowerWise: Y; Published: 29-May-2009; DatasheetVersion: Oct-2008; PackageVersion: revA, Jun-2005; PackageReference: SQA60A; Publisher: Altium Limited; PackageDescription: LLP, Quad, 9 x 9 x 0.8mm, 60 Lead, 0.5mm Pitch, No Pullback; RoHS: Y; PinCount: 60; DigiKeyPartNumber: ADC12DC105CISQ-ND; ComponentLink1Description: ADC12DC105 Datasheet; ComponentLink1URL: http://www.national.com/ds/AD/ADC12DC105.pdf; ComponentLink2Description: ADC12DC105 Web Page; ComponentLink2URL: http://www.national.com/pf/AD/ADC12DC105.html; ComponentLink3Description: SQA60A Package Page; ComponentLink3URL: http://www.national.com/packaging/folders/sqa60a.html
footprint SQA60A (QFN, 60-Leads, Body 9x9mm, Pitch 0.5mm, NSC Recommended)
part A pins: 2 VINA- (in), 3 VINA+ (in), 5 VRPA (in), 6 VRNA (in), 7 VCMOA (in), 9 VCMOB (in), 10 VRNB (in), 11 VRPB (in), 13 VINB+ (in), 14 VINB- (in), 18 CLK (in), 19 OF/DCS (in), 20 PD_B (in), 21 NC, 22 NC, 23 DB0 (LSB) (out), 24 DB1 (out), 27 DB2 (out), 28 DB3 (out), 29 DB4 (out), 30 DB5 (out), 31 DB6 (out), 32 DB7 (out), 33 DB8 (out), 34 DB9 (out), 35 DB10 (out), 36 DB11 (MSB) (out), 39 DRDY (in), 40 NC, 41 NC, 42 DA0 (LSB) (out), 43 DA1 (out), 44 DA2 (out), 45 DA3 (out), 46 DA4 (out), 47 DA5 (out), 48 DA6 (out), 49 DA7 (out), 52 DA8 (out), 53 DA9 (out), 54 DA10 (out), 55 DA11 (MSB) (out), 56 NC, 57 PD_A (in), 59 VREF (in)
part B pins: 1 AGND (power), 4 AGND (power), 8 VA (power), 12 AGND (power), 15 AGND (power), 16 VA (power), 17 VA (power), 25 DRGND (power), 26 VDR (power), 37 DRGND (power), 38 VDR (power), 50 VDR (power), 51 DRGND (power), 58 VA (power), 60 VA (power), 61 AGND (power)

## ADC12DL040CIVS
designator U?
Dual 12-Bit, 40 MSPS, 3V, 210mW A/D Converter; PartNumber: ADC12DL040CIVS; Manufacturer: National Semiconductor; CompType: ADC IC; PackageTopMarking: NSUZXYYTT*ADC12DL040*CIVS; PowerWise: Y; Published: 4-Dec-2008; DatasheetVersion: Feb-2005; PackageVersion: revB, Jul-2003; PackageReference: VEC64A; Publisher: Altium Limited; PackageDescription: TQFP, Jedec Metric, 10 x 10 x 1.0mm, 64 Lead, 0.5mm Pitch; RoHS: Y; PinCount: 64; DigiKeyPartNumber: ADC12DL040CIVS-ND; Code_JEDEC: MS-026-ACD; ComponentLink1Description: ADC12DL040 Datasheet; ComponentLink1URL: http://www.national.com/ds/AD/ADC12DL040.pdf; ComponentLink2Description: ADC12DL040 Web Page; ComponentLink2URL: http://www.national.com/pf/AD/ADC12DL040.html; ComponentLink3Description: VEC64A Package Page; ComponentLink3URL: http://www.national.com/packaging/folders/vec64a.html
footprint VEC64A_N (Thin QFP, 64-Leads, Body 10x10mm, Pitch 0.5mm, IPC Medium Density)
footprint VEC64A_L (Thin QFP, 64-Leads, Body 10x10mm, Pitch 0.5mm, IPC High Density)
footprint VEC64A_M (Thin QFP, 64-Leads, Body 10x10mm, Pitch 0.5mm, IPC Low Density)
pins: 1 VINB- (in), 2 VINB+ (in), 3 AGND (power), 4 VRMB, 5 VRPB, 6 VRNB, 7 VREF (power), 8 AGND (power), 9 VA (power), 10 AGND (power), 11 MULTIPLEX (in), 12 VRNA, 13 VRPA, 14 VRMA, 15 VINA+ (in), 16 VINA- (in), 17 AGND (power), 18 VA (power), 19 VA (power), 20 AGND (power), 21 DF/DCS (in), 22 ~{OEA} (in), 23 DRGND (power), 24 DA0 (out), 25 DA1 (out), 26 DA2 (out), 27 DA3 (out), 28 DA4 (out), 29 DA5 (out), 30 VDR (power), 31 DRGND (power), 32 DGND (power), 33 VD (power), 34 DA6 (out), 35 DA7 (out), 36 DA8 (out), 37 DA9 (out), 38 DA10 (out), 39 DA11 (out), 40 DRGND (power), 41 ~{OEB} (in), 42 DB0/ABB (out), 43 DB1 (out), 44 DB2 (out), 45 DB3 (out), 46 DB4 (out), 47 DB5 (out), 48 VD (power), 49 DGND (power), 50 DRGND (power), 51 VDR (power), 52 DB6 (out), 53 DB7 (out), 54 DB8 (out), 55 DB9 (out), 56 DB10 (out), 57 DB11 (out), 58 DRGND (power), 59 PD (in), 60 CLK (in), 61 AGND (power), 62 VA (power), 63 VA (power), 64 AGND (power)

## ADC12DL065CIVS
designator U?
Dual 12-Bit, 65 MSPS, A/D Converter; PartNumber: ADC12DL065CIVS; Manufacturer: National Semiconductor; CompType: ADC IC; PackageTopMarking: NSUZXYYTT*ADC12DL065*CIVS; PowerWise: Y; Published: 4-Dec-2008; DatasheetVersion: May-2005; PackageVersion: revB, Jul-2003; PackageReference: VEC64A; Publisher: Altium Limited; PackageDescription: TQFP, Jedec Metric, 10 x 10 x 1.0mm, 64 Lead, 0.5mm Pitch; RoHS: Y; PinCount: 64; DigiKeyPartNumber: ADC12DL065CIVS-ND; Code_JEDEC: MS-026-ACD; ComponentLink1Description: ADC12DL065 Datasheet; ComponentLink1URL: http://www.national.com/ds/AD/ADC12DL065.pdf; ComponentLink2Description: ADC12DL065 Web Page; ComponentLink2URL: http://www.national.com/pf/AD/ADC12DL065.html; ComponentLink3Description: VEC64A Package Page; ComponentLink3URL: http://www.national.com/packaging/folders/vec64a.html
footprint VEC64A_N (Thin QFP, 64-Leads, Body 10x10mm, Pitch 0.5mm, IPC Medium Density)
footprint VEC64A_L (Thin QFP, 64-Leads, Body 10x10mm, Pitch 0.5mm, IPC High Density)
footprint VEC64A_M (Thin QFP, 64-Leads, Body 10x10mm, Pitch 0.5mm, IPC Low Density)
pins: 1 VINB- (in), 2 VINB+ (in), 3 AGND (power), 4 VRMB, 5 VRPB, 6 VRNB, 7 VREF (power), 8 AGND (power), 9 VA (power), 10 AGND (power), 11 MULTIPLEX (in), 12 VRNA, 13 VRPA, 14 VRMA, 15 VINA+ (in), 16 VINA- (in), 17 AGND (power), 18 VA (power), 19 VA (power), 20 AGND (power), 21 DF/DCS (in), 22 ~{OEA} (in), 23 DRGND (power), 24 DA0 (out), 25 DA1 (out), 26 DA2 (out), 27 DA3 (out), 28 DA4 (out), 29 DA5 (out), 30 VDR (power), 31 DRGND (power), 32 DGND (power), 33 VD (power), 34 DA6 (out), 35 DA7 (out), 36 DA8 (out), 37 DA9 (out), 38 DA10 (out), 39 DA11 (out), 40 DRGND (power), 41 ~{OEB} (in), 42 DB0/ABB (out), 43 DB1 (out), 44 DB2 (out), 45 DB3 (out), 46 DB4 (out), 47 DB5 (out), 48 VD (power), 49 DGND (power), 50 DRGND (power), 51 VDR (power), 52 DB6 (out), 53 DB7 (out), 54 DB8 (out), 55 DB9 (out), 56 DB10 (out), 57 DB11 (out), 58 DRGND (power), 59 PD (in), 60 CLK (in), 61 AGND (power), 62 VA (power), 63 VA (power), 64 AGND (power)

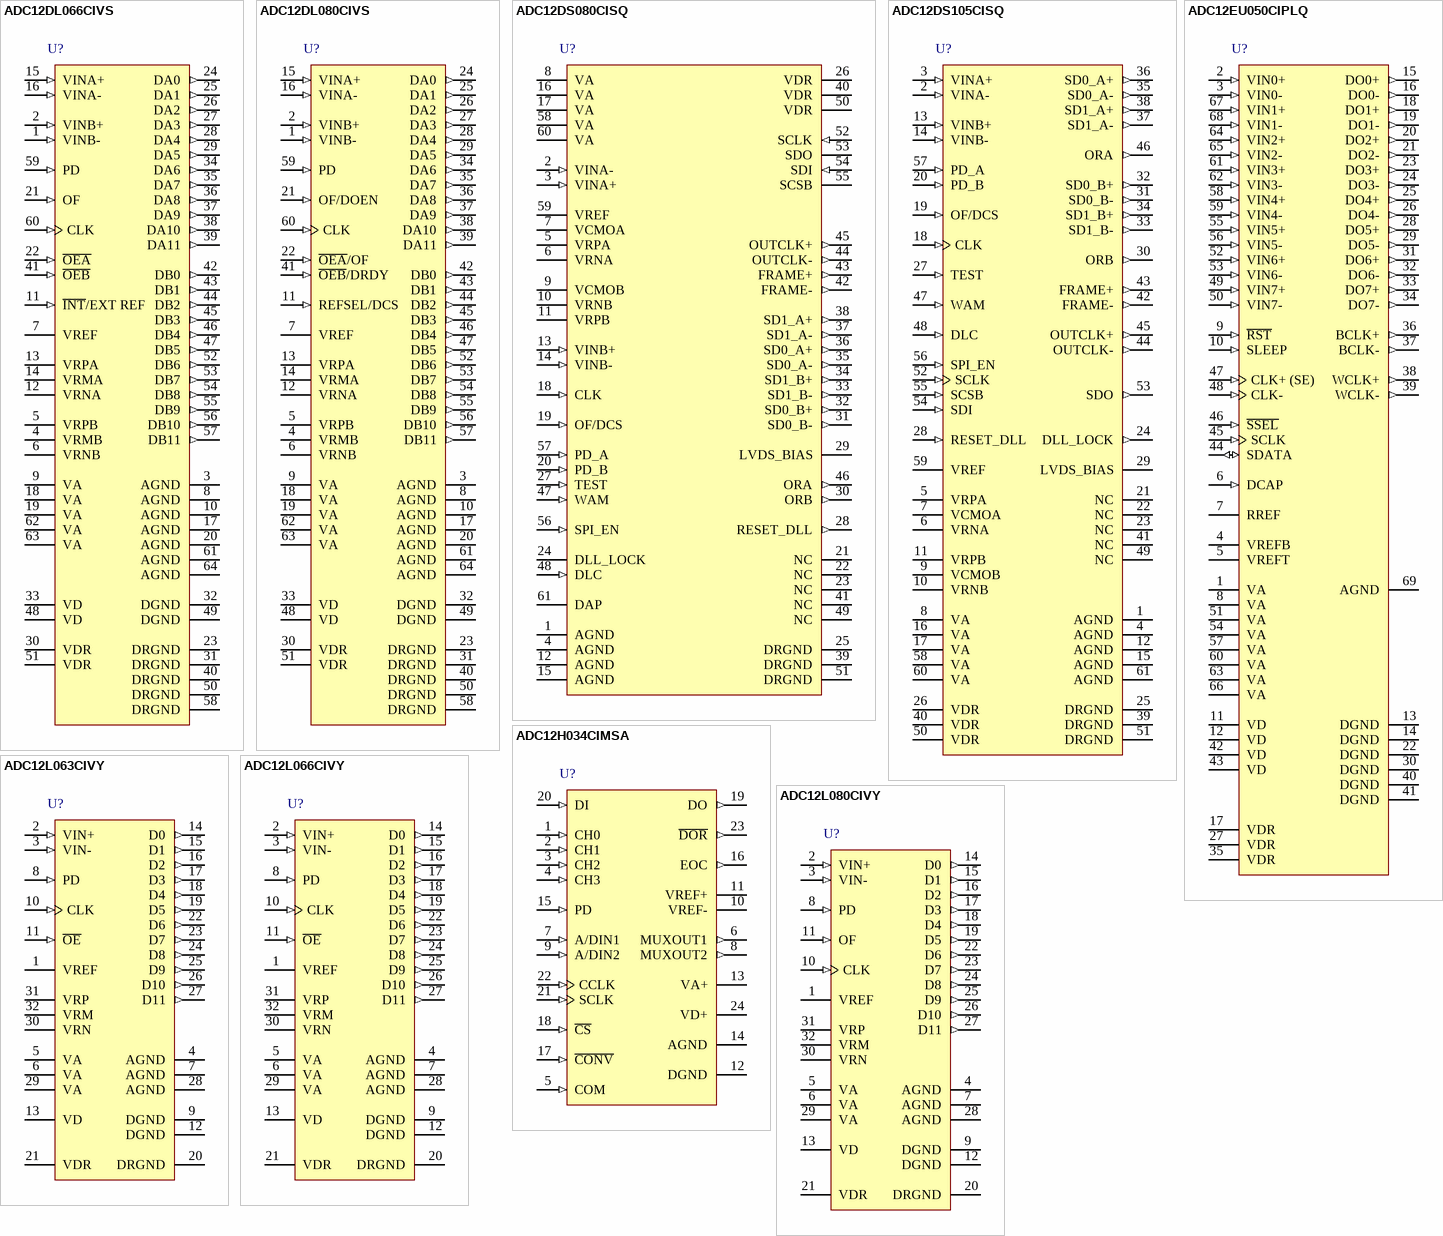
[diagram p7: symbols ADC12DL066CIVS to ADC12L080CIVY]

## ADC12DL066CIVS
designator U?
Dual 12-Bit, 66 MSPS, 450 MHz Input Bandwidth A/D Converter w/Internal Reference; PartNumber: ADC12DL066CIVS; Manufacturer: National Semiconductor; CompType: ADC IC; PackageTopMarking: NSUZXYYTT*ADC12DL066*CIVS; PowerWise: N; Published: 4-Dec-2008; DatasheetVersion: Mar-2004; PackageVersion: revB, Jul-2003; PackageReference: VEC64A; Publisher: Altium Limited; PackageDescription: TQFP, Jedec Metric, 10 x 10 x 1.0mm, 64 Lead, 0.5mm Pitch; RoHS: Y; PinCount: 64; DigiKeyPartNumber: ADC12DL066CIVS-ND; Code_JEDEC: MS-026-ACD; ComponentLink1Description: ADC12DL066 Datasheet; ComponentLink1URL: http://www.national.com/ds/AD/ADC12DL066.pdf; ComponentLink2Description: ADC12DL066 Web Page; ComponentLink2URL: http://www.national.com/pf/AD/ADC12DL066.html; ComponentLink3Description: VEC64A Package Page; ComponentLink3URL: http://www.national.com/packaging/folders/vec64a.html
footprint VEC64A_N (Thin QFP, 64-Leads, Body 10x10mm, Pitch 0.5mm, IPC Medium Density)
footprint VEC64A_L (Thin QFP, 64-Leads, Body 10x10mm, Pitch 0.5mm, IPC High Density)
footprint VEC64A_M (Thin QFP, 64-Leads, Body 10x10mm, Pitch 0.5mm, IPC Low Density)
pins: 1 VINB- (in), 2 VINB+ (in), 3 AGND (power), 4 VRMB, 5 VRPB, 6 VRNB, 7 VREF (power), 8 AGND (power), 9 VA (power), 10 AGND (power), 11 ~{INT}/EXT REF (in), 12 VRNA, 13 VRPA, 14 VRMA, 15 VINA+ (in), 16 VINA- (in), 17 AGND (power), 18 VA (power), 19 VA (power), 20 AGND (power), 21 OF (in), 22 ~{OEA} (in), 23 DRGND (power), 24 DA0 (out), 25 DA1 (out), 26 DA2 (out), 27 DA3 (out), 28 DA4 (out), 29 DA5 (out), 30 VDR (power), 31 DRGND (power), 32 DGND (power), 33 VD (power), 34 DA6 (out), 35 DA7 (out), 36 DA8 (out), 37 DA9 (out), 38 DA10 (out), 39 DA11 (out), 40 DRGND (power), 41 ~{OEB} (in), 42 DB0 (out), 43 DB1 (out), 44 DB2 (out), 45 DB3 (out), 46 DB4 (out), 47 DB5 (out), 48 VD (power), 49 DGND (power), 50 DRGND (power), 51 VDR (power), 52 DB6 (out), 53 DB7 (out), 54 DB8 (out), 55 DB9 (out), 56 DB10 (out), 57 DB11 (out), 58 DRGND (power), 59 PD (in), 60 CLK (in), 61 AGND (power), 62 VA (power), 63 VA (power), 64 AGND (power)

## ADC12DL080CIVS
designator U?
Dual 12-Bit, 80 MSPS, A/D Converter; PartNumber: ADC12DL080CIVS; Manufacturer: National Semiconductor; CompType: ADC IC; PackageTopMarking: NSUZXYYTT*ADC12DL080*CIVS; PowerWise: Y; Published: 4-Dec-2008; DatasheetVersion: Feb-2006; PackageVersion: revB, Jul-2003; PackageReference: VEC64A; Publisher: Altium Limited; PackageDescription: TQFP, Jedec Metric, 10 x 10 x 1.0mm, 64 Lead, 0.5mm Pitch; RoHS: Y; PinCount: 64; DigiKeyPartNumber: ADC12DL080CIVS-ND; Code_JEDEC: MS-026-ACD; ComponentLink1Description: ADC12DL080 Datasheet; ComponentLink1URL: http://www.national.com/ds/AD/ADC12DL080.pdf; ComponentLink2Description: ADC12DL080 Web Page; ComponentLink2URL: http://www.national.com/pf/AD/ADC12DL080.html; ComponentLink3Description: VEC64A Package Page; ComponentLink3URL: http://www.national.com/packaging/folders/vec64a.html
footprint VEC64A_N (Thin QFP, 64-Leads, Body 10x10mm, Pitch 0.5mm, IPC Medium Density)
footprint VEC64A_L (Thin QFP, 64-Leads, Body 10x10mm, Pitch 0.5mm, IPC High Density)
footprint VEC64A_M (Thin QFP, 64-Leads, Body 10x10mm, Pitch 0.5mm, IPC Low Density)
pins: 1 VINB- (in), 2 VINB+ (in), 3 AGND (power), 4 VRMB, 5 VRPB, 6 VRNB, 7 VREF (power), 8 AGND (power), 9 VA (power), 10 AGND (power), 11 REFSEL/DCS (in), 12 VRNA, 13 VRPA, 14 VRMA, 15 VINA+ (in), 16 VINA- (in), 17 AGND (power), 18 VA (power), 19 VA (power), 20 AGND (power), 21 OF/DOEN (in), 22 ~{OEA}/OF (in), 23 DRGND (power), 24 DA0 (out), 25 DA1 (out), 26 DA2 (out), 27 DA3 (out), 28 DA4 (out), 29 DA5 (out), 30 VDR (power), 31 DRGND (power), 32 DGND (power), 33 VD (power), 34 DA6 (out), 35 DA7 (out), 36 DA8 (out), 37 DA9 (out), 38 DA10 (out), 39 DA11 (out), 40 DRGND (power), 41 ~{OEB}/DRDY (in), 42 DB0 (out), 43 DB1 (out), 44 DB2 (out), 45 DB3 (out), 46 DB4 (out), 47 DB5 (out), 48 VD (power), 49 DGND (power), 50 DRGND (power), 51 VDR (power), 52 DB6 (out), 53 DB7 (out), 54 DB8 (out), 55 DB9 (out), 56 DB10 (out), 57 DB11 (out), 58 DRGND (power), 59 PD (in), 60 CLK (in), 61 AGND (power), 62 VA (power), 63 VA (power), 64 AGND (power)

## ADC12DS080CISQ
designator U?
Dual 12-Bit, 80 MSPS A/D Converter with Serial LVDS Outputs; PartNumber: ADC12DS080CISQ; Manufacturer: National Semiconductor; CompType: ADC IC; PackageTopMarking: NS*UZXYTT*12DS080; PowerWise: Y; Published: 4-Dec-2008; DatasheetVersion: Mar-2008; PackageVersion: revA, Jun-2005; PackageReference: SQA60A; Publisher: Altium Limited; PackageDescription: LLP, Quad, 9 x 9 x 0.8mm, 60 Lead, 0.5mm Pitch, No Pullback; RoHS: Y; PinCount: 60; DigiKeyPartNumber: ADC12DS080CISQCT-ND; ComponentLink1Description: ADC12DS080 Datasheet; ComponentLink1URL: http://www.national.com/ds/AD/ADC12DS080.pdf; ComponentLink2Description: ADC12DS080 Web Page; ComponentLink2URL: http://www.national.com/pf/AD/ADC12DS080.html; ComponentLink3Description: SQA60A Package Drawing; ComponentLink3URL: http://www.national.com/packaging/folders/sqa60a.html
footprint SQA60A (QFN, 60-Leads, Body 9x9mm, Pitch 0.5mm, NSC Recommended)
pins: 1 AGND (power), 2 VINA- (in), 3 VINA+ (in), 4 AGND (power), 5 VRPA, 6 VRNA, 7 VCMOA, 8 VA (power), 9 VCMOB, 10 VRNB, 11 VRPB, 12 AGND (power), 13 VINB+ (in), 14 VINB- (in), 15 AGND (power), 16 VA (power), 17 VA (power), 18 CLK (in), 19 OF/DCS (in), 20 PD_B (in), 21 NC, 22 NC, 23 NC, 24 DLL_LOCK, 25 DRGND (power), 26 VDR, 27 TEST (in), 28 RESET_DLL (out), 29 LVDS_BIAS, 30 ORB (out), 31 SD0_B- (out), 32 SD0_B+ (out), 33 SD1_B- (out), 34 SD1_B+ (out), 35 SD0_A- (out), 36 SD0_A+ (out), 37 SD1_A- (out), 38 SD1_A+ (out), 39 DRGND (power), 40 VDR, 41 NC, 42 FRAME- (out), 43 FRAME+ (out), 44 OUTCLK- (out), 45 OUTCLK+ (out), 46 ORA (out), 47 WAM (in), 48 DLC (in), 49 NC, 50 VDR, 51 DRGND (power), 52 SCLK (in), 53 SDO (hiz), 54 SDI (in), 55 SCSB, 56 SPI_EN (in), 57 PD_A (in), 58 VA (power), 59 VREF, 60 VA (power), 61 DAP

## ADC12DS105CISQ
designator U?
Dual 12-Bit, 105 MSPS A/D Converter with Serial LVDS Outputs; PartNumber: ADC12DS105CISQ; Manufacturer: National Semiconductor; CompType: ADC IC; PackageTopMarking: NS*UZXYTT*12DS105; PowerWise: Y; Published: 4-Dec-2008; DatasheetVersion: Feb-2008; PackageVersion: revA, Jun-2005; PackageReference: SQA60A; Publisher: Altium Limited; PackageDescription: LLP, Quad, 9 x 9 x 0.8mm, 60 Lead, 0.5mm Pitch, No Pullback; RoHS: Y; PinCount: 60; DigiKeyPartNumber: ADC12DS105CISQCT-ND; ComponentLink1Description: ADC12DS105 Datasheet; ComponentLink1URL: http://www.national.com/ds/AD/ADC12DS105.pdf; ComponentLink2Description: ADC12DS105 Web Page; ComponentLink2URL: http://www.national.com/pf/AD/ADC12DS105.html; ComponentLink3Description: SQA60A Package Page; ComponentLink3URL: http://www.national.com/packaging/folders/sqa60a.html
footprint SQA60A (QFN, 60-Leads, Body 9x9mm, Pitch 0.5mm, NSC Recommended)
pins: 1 AGND (power), 2 VINA- (in), 3 VINA+ (in), 4 AGND (power), 5 VRPA, 6 VRNA, 7 VCMOA, 8 VA (power), 9 VCMOB, 10 VRNB, 11 VRPB, 12 AGND (power), 13 VINB+ (in), 14 VINB- (in), 15 AGND (power), 16 VA (power), 17 VA (power), 18 CLK (in), 19 OF/DCS (in), 20 PD_B (in), 21 NC, 22 NC, 23 NC, 24 DLL_LOCK (out), 25 DRGND (power), 26 VDR (power), 27 TEST (in), 28 RESET_DLL (in), 29 LVDS_BIAS, 30 ORB (out), 31 SD0_B- (out), 32 SD0_B+ (out), 33 SD1_B- (out), 34 SD1_B+ (out), 35 SD0_A- (out), 36 SD0_A+ (out), 37 SD1_A- (out), 38 SD1_A+ (out), 39 DRGND (power), 40 VDR (power), 41 NC, 42 FRAME- (out), 43 FRAME+ (out), 44 OUTCLK- (out), 45 OUTCLK+ (out), 46 ORA (out), 47 WAM (in), 48 DLC (in), 49 NC, 50 VDR (power), 51 DRGND (power), 52 SCLK (in), 53 SDO (out), 54 SDI (in), 55 SCSB (in), 56 SPI_EN (in), 57 PD_A (in), 58 VA (power), 59 VREF (power), 60 VA (power), 61 AGND (power)

## ADC12EU050CIPLQ
designator U?
Ultra-Low Power, Octal, 12-bit, 40-50 MSPS Sigma-Delta Analog-to-Digital Converter; PartNumber: ADC12EU050CIPLQ; Manufacturer: National Semiconductor; CompType: ADC IC; PackageTopMarking: NS*UZXYTT*12EU050P; PowerWise: N; Published: 4-Dec-2008; DatasheetVersion: Nov-2008; PackageVersion: revA, Apr-2001; PackageReference: LQA68A; Publisher: Altium Limited; PackageDescription: LLP, Plastic, Quad, 10 x 10 x 1mm Body, 68 Lead, 0.5mm Pitch (8.1 X 8.1mm Exposed Pad); RoHS: Y; PinCount: 68; ComponentLink1Description: ADC12EU050 Datasheet; ComponentLink1URL: http://www.national.com/ds/AD/ADC12EU050.pdf; ComponentLink2Description: ADC12EU050 Web Page; ComponentLink2URL: http://www.national.com/pf/AD/ADC12EU050.html; ComponentLink3Description: LQA68A Package Drawing; ComponentLink3URL: http://www.national.com/packaging/folders/lqa68a.html
footprint LQA68A (QFN, 68-Leads, Body 10x10mm, Pitch 0.5mm, NSC Recommended)
pins: 1 VA (power), 2 VIN0+ (in), 3 VIN0- (in), 4 VREFB (power), 5 VREFT (power), 6 DCAP (in), 7 RREF, 8 VA (power), 9 ~{RST} (in), 10 SLEEP (in), 11 VD (power), 12 VD (power), 13 DGND (power), 14 DGND (power), 15 DO0+ (out), 16 DO0- (out), 17 VDR (power), 18 DO1+ (out), 19 DO1- (out), 20 DO2+ (out), 21 DO2- (out), 22 DGND (power), 23 DO3+ (out), 24 DO3- (out), 25 DO4+ (out), 26 DO4- (out), 27 VDR (power), 28 DO5+ (out), 29 DO5- (out), 30 DGND (power), 31 DO6+ (out), 32 DO6- (out), 33 DO7+ (out), 34 DO7- (out), 35 VDR (power), 36 BCLK+ (out), 37 BCLK- (out), 38 WCLK+ (out), 39 WCLK- (out), 40 DGND (power), 41 DGND (power), 42 VD (power), 43 VD (power), 44 SDATA (io), 45 SCLK (in), 46 ~{SSEL} (in), 47 CLK+ (SE) (in), 48 CLK- (in), 49 VIN7+ (in), 50 VIN7- (in), 51 VA (power), 52 VIN6+ (in), 53 VIN6- (in), 54 VA (power), 55 VIN5+ (in), 56 VIN5- (in), 57 VA (power), 58 VIN4+ (in), 59 VIN4- (in), 60 VA (power), 61 VIN3+ (in), 62 VIN3- (in), 63 VA (power), 64 VIN2+ (in), 65 VIN2- (in), 66 VA (power), 67 VIN1+ (in), 68 VIN1- (in), 69 AGND (power)

## ADC12H034CIMSA
designator U?
Self-Calibrating 12-Bit Plus Sign Serial I/O A/D Converters with MUX and Sample/Hold; PartNumber: ADC12H034CIMSA; Manufacturer: National Semiconductor; CompType: ADC IC; PackageTopMarking: NSUZXYTT*ADC12H034*CIMSA; PowerWise: N; Published: 4-Dec-2008; DatasheetVersion: Jul-2001; PackageVersion: revC, Nov-2002; PackageReference: MSA24; Publisher: Altium Limited; PackageDescription: Molded SSOP, 8.2 x 5.3mm Body, 24 Lead, 0.65mm Pitch; RoHS: Y; PinCount: 24; DigiKeyPartNumber: ADC12H034CIMSA-ND; Code_JEDEC: MO-150-AG; ComponentLink1Description: ADC12H034 Datasheet; ComponentLink1URL: http://www.national.com/ds/AD/ADC12H034.pdf; ComponentLink2Description: ADC12H034 Web Page; ComponentLink2URL: http://www.national.com/pf/AD/ADC12H034.html; ComponentLink3Description: MSA24 Package Page; ComponentLink3URL: http://www.national.com/packaging/folders/msa24.html
footprint MSA24_N (SOP, 24-Leads, Body 8.2x5.3mm, Pitch 0.65mm, IPC Medium Density)
footprint MSA24_L (SOP, 24-Leads, Body 8.2x5.3mm, Pitch 0.65mm, IPC High Density)
footprint MSA24_M (SOP, 24-Leads, Body 8.2x5.3mm, Pitch 0.65mm, IPC Low Density)
pins: 1 CH0 (in), 2 CH1 (in), 3 CH2 (in), 4 CH3 (in), 5 COM (in), 6 MUXOUT1 (out), 7 A/DIN1 (in), 8 MUXOUT2 (out), 9 A/DIN2 (in), 10 VREF- (power), 11 VREF+ (power), 12 DGND (power), 13 VA+ (power), 14 AGND (power), 15 PD (in), 16 EOC (out), 17 ~{CONV} (in), 18 ~{CS} (in), 19 DO (out), 20 DI (in), 21 SCLK (in), 22 CCLK (in), 23 ~{DOR} (out), 24 VD+ (power)